# Altium schematic symbol library sucaiku.SCHLIB: 44 symbols
Pins are listed as number, name and electrical type; pins without a type are passive.

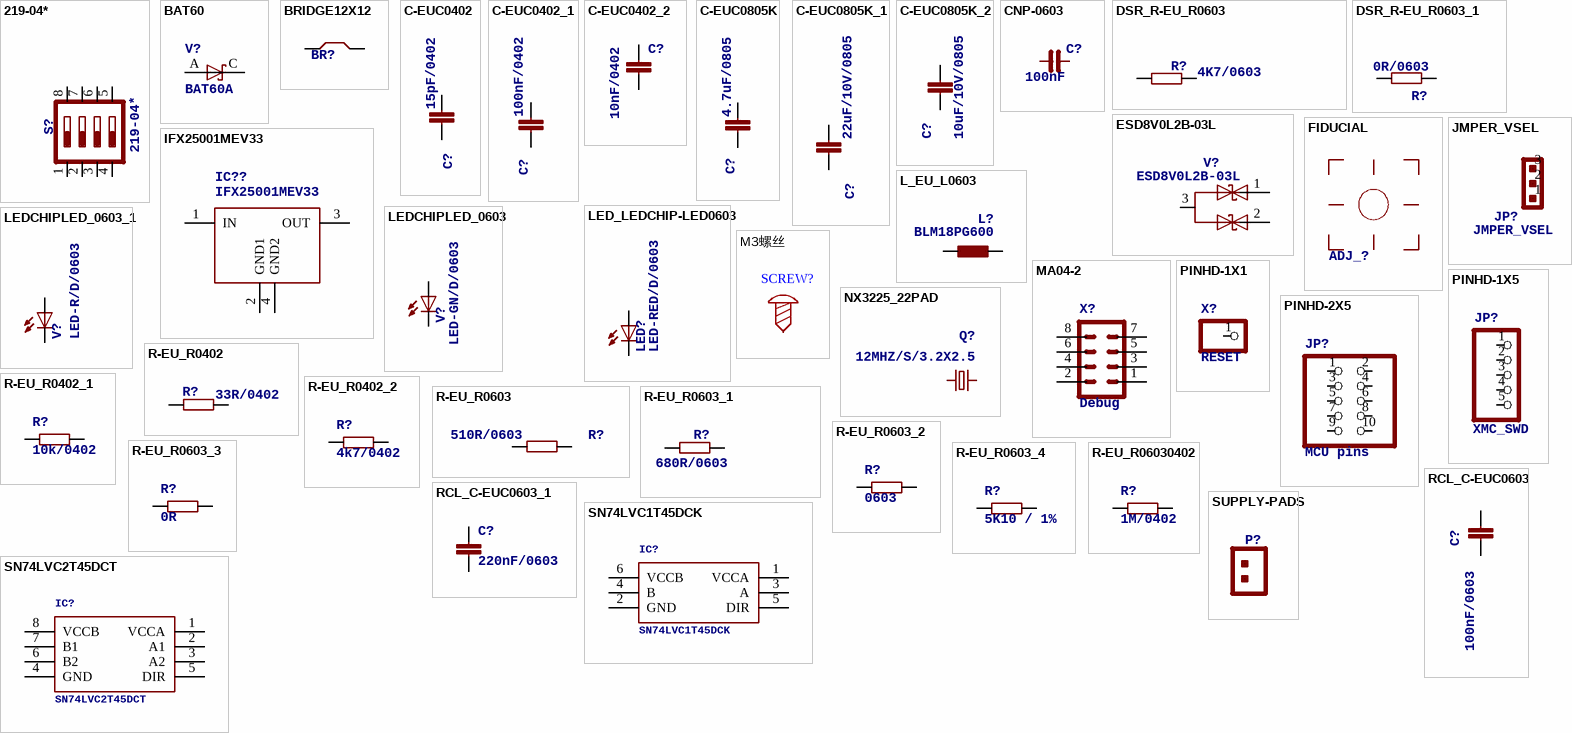
[diagram p0: symbols 219-04* to SUPPLY-PADS]

## 219-04*
designator S?
Surface Mount DIP Switch Series 219 SMT   CTS Electronic Components Sourc: www.ctscorp.com
footprint CTS-219-04
pins: 1, 2, 3, 4, 5, 6, 7, 8

## BAT60
designator V?, comment BAT60A
footprint SOD323-R
pins: A, C

## BRIDGE12X12
designator BR?  (value not drawn)
footprint BRIDGE12
pins: B1, B2

## C-EUC0402
designator C?, comment 15pF/0402
footprint C0402
pins: 1, 2

## C-EUC0402_1
designator C?, comment 100nF/0402
footprint C0402
pins: 1, 2

## C-EUC0402_2
designator C?, comment 10nF/0402
footprint C0402
pins: 1, 2

## C-EUC0805K
designator C?, comment 4.7uF/0805
CAPACITOR, European symbol
footprint C0805K
pins: 1, 2

## C-EUC0805K_1
designator C?, comment 22uF/10V/0805
CAPACITOR, European symbol
footprint C0805K
pins: 1, 2

## C-EUC0805K_2
designator C?, comment 10uF/10V/0805
CAPACITOR, European symbol
footprint C0805K
pins: 1, 2

## CNP-0603
designator C?, comment 100nF
NON-POLARIZED CAP
footprint 0603
pins: 1, 2

## DSR_R-EU_R0603
designator R?, comment 4K7/0603
footprint DSR_R0603
pins: 1, 2

## DSR_R-EU_R0603_1
designator R?, comment 0R/0603
footprint DSR_R0603
pins: 1, 2

## ESD8V0L2B-03L
designator V?
footprint TSLP-3-1
pins: 1, 2, 3

## FIDUCIAL
designator ADJ_?  (value not drawn)
Fiducial   FIDUCIAL: Durchmesser = 0.75mm Kupfer und 1.5mm Lötstopmaske FIDUCIAL 0.5mm: Durchmesser= 0.5mm Kupfer und 1.0mm Lötstopmaske
footprint FIDUCIAL

## IFX25001MEV33
designator IC??
footprint SOT223R_INFINEON
pins: 1 IN (power), 2 GND1 (power), 3 OUT (power), 4 GND2 (power)

## JMPER_VSEL
designator JP?
footprint JUMPER_VSEL
pins: 1, 2, 3

## L_EU_L0603
designator L?, comment BLM18PG600
footprint L1608
pins: 1, 2

## LED_LEDCHIP-LED0603
designator LED?, comment LED-RED/D/0603
LED   OSRAM: - CHIPLED LG R971, LG N971, LY N971, LG Q971, LY Q971, LO R971, LY R971 LH N974, LH R974 LS Q976, LO Q976, LY Q976 LO Q996 - Hyper CHIPLED LW Q18S LB Q993, LB Q99A, LB R99A - SideLED LS A670, LO A670, LY A670, LG A670, LP A670 LB A673, LV A673, LT A673, LW A673 LH A674 LY A675 LS A676, LA A676, LO A676, LY A676, LW A676 LS A679, LY A679, LG A679 -  Hyper Micro SIDELED® LS Y876, LA Y876, LO Y876, LY Y876 LT Y87S - SmartLED LW L88C, LW L88S LB L89C, LB L89S, LG L890 LS L89K, LO L89K, LY L89K LS L896, LA L896, LO L896, LY L896 - TOPLED LS T670, LO T670, LY T670, LG T670, LP T670 LSG T670, LSP T670, LSY T670, LOP T670, LYG T670 LG T671, LOG T671, LSG T671 LB T673, LV T673, LT T673, LW T673 LH T674 LS T676, LA T676, LO T676, LY T676, LB T676, LH T676, LSB T676, LW T676 LB T67C, LV T67C, LT T67C, LS T67K, LO T67K, LY T67K, LW E67C LS E67B, LA E67B, LO E67B, LY E67B, LB E67C, LV E67C, LT E67C LW T67C LS T679, LY T679, LG T679 LS T770, LO T770, LY T770, LG T770, LP T770 LB T773, LV T773, LT T773, LW T773 LH T774 LS E675, LA E675, LY E675, LS T675 LS T776, LA T776, LO T776, LY T776, LB T776 LHGB T686 LT T68C, LB T68C - Hyper Mini TOPLED® LB M676 - Mini TOPLED Santana® LG M470 LS M47K, LO M47K, LY M47K    Source: http://www.osram.convergy.de   - LUMILED® LXK2-PW12-R00, LXK2-PW12-S00, LXK2-PW14-U00, LXK2-PW14-V00 LXK2-PM12-R00, LXK2-PM12-S00, LXK2-PM14-U00 LXK2-PE12-Q00, LXK2-PE12-R00, LXK2-PE12-S00, LXK2-PE14-T00, LXK2-PE14-U00 LXK2-PB12-K00, LXK2-PB12-L00, LXK2-PB12-M00, LXK2-PB14-N00, LXK2-PB14-P00, LXK2-PB14-Q00 LXK2-PR12-L00, LXK2-PR12-M00, LXK2-PR14-Q00, LXK2-PR14-R00 LXK2-PD12-Q00, LXK2-PD12-R00, LXK2-PD12-S00 LXK2-PH12-R00, LXK2-PH12-S00 LXK2-PL12-P00, LXK2-PL12-Q00, LXK2-PL12-R00    Source: www.luxeon.com
footprint LED_CHIP-LED0603
pins: A, C

## LEDCHIPLED_0603
designator V?, comment LED-GN/D/0603
LED   OSRAM: - CHIPLED LG R971, LG N971, LY N971, LG Q971, LY Q971, LO R971, LY R971 LH N974, LH R974 LS Q976, LO Q976, LY Q976 LO Q996 - Hyper CHIPLED LW Q18S LB Q993, LB Q99A, LB R99A - SideLED LS A670, LO A670, LY A670, LG A670, LP A670 LB A673, LV A673, LT A673, LW A673 LH A674 LY A675 LS A676, LA A676, LO A676, LY A676, LW A676 LS A679, LY A679, LG A679 -  Hyper Micro SIDELED® LS Y876, LA Y876, LO Y876, LY Y876 LT Y87S - SmartLED LW L88C, LW L88S LB L89C, LB L89S, LG L890 LS L89K, LO L89K, LY L89K LS L896, LA L896, LO L896, LY L896 - TOPLED LS T670, LO T670, LY T670, LG T670, LP T670 LSG T670, LSP T670, LSY T670, LOP T670, LYG T670 LG T671, LOG T671, LSG T671 LB T673, LV T673, LT T673, LW T673 LH T674 LS T676, LA T676, LO T676, LY T676, LB T676, LH T676, LSB T676, LW T676 LB T67C, LV T67C, LT T67C, LS T67K, LO T67K, LY T67K, LW E67C LS E67B, LA E67B, LO E67B, LY E67B, LB E67C, LV E67C, LT E67C LW T67C LS T679, LY T679, LG T679 LS T770, LO T770, LY T770, LG T770, LP T770 LB T773, LV T773, LT T773, LW T773 LH T774 LS E675, LA E675, LY E675, LS T675 LS T776, LA T776, LO T776, LY T776, LB T776 LHGB T686 LT T68C, LB T68C - Hyper Mini TOPLED® LB M676 - Mini TOPLED Santana® LG M470 LS M47K, LO M47K, LY M47K    Source: http://www.osram.convergy.de   LUXEON: - LUMILED® LXK2-PW12-R00, LXK2-PW12-S00, LXK2-PW14-U00, LXK2-PW14-V00 LXK2-PM12-R00, LXK2-PM12-S00, LXK2-PM14-U00 LXK2-PE12-Q00, LXK2-PE12-R00, LXK2-PE12-S00, LXK2-PE14-T00, LXK2-PE14-U00 LXK2-PB12-K00, LXK2-PB12-L00, LXK2-PB12-M00, LXK2-PB14-N00, LXK2-PB14-P00, LXK2-PB14-Q00 LXK2-PR12-L00, LXK2-PR12-M00, LXK2-PR14-Q00, LXK2-PR14-R00 LXK2-PD12-Q00, LXK2-PD12-R00, LXK2-PD12-S00 LXK2-PH12-R00, LXK2-PH12-S00 LXK2-PL12-P00, LXK2-PL12-Q00, LXK2-PL12-R00    Source: www.luxeon.com   KINGBRIGHT:   KA-3528ASYC Source: www.kingbright.com
footprint CHIPLED_0603
pins: A, C

## LEDCHIPLED_0603_1
designator V?, comment LED-R/D/0603
LED   OSRAM: - CHIPLED LG R971, LG N971, LY N971, LG Q971, LY Q971, LO R971, LY R971 LH N974, LH R974 LS Q976, LO Q976, LY Q976 LO Q996 - Hyper CHIPLED LW Q18S LB Q993, LB Q99A, LB R99A - SideLED LS A670, LO A670, LY A670, LG A670, LP A670 LB A673, LV A673, LT A673, LW A673 LH A674 LY A675 LS A676, LA A676, LO A676, LY A676, LW A676 LS A679, LY A679, LG A679 -  Hyper Micro SIDELED® LS Y876, LA Y876, LO Y876, LY Y876 LT Y87S - SmartLED LW L88C, LW L88S LB L89C, LB L89S, LG L890 LS L89K, LO L89K, LY L89K LS L896, LA L896, LO L896, LY L896 - TOPLED LS T670, LO T670, LY T670, LG T670, LP T670 LSG T670, LSP T670, LSY T670, LOP T670, LYG T670 LG T671, LOG T671, LSG T671 LB T673, LV T673, LT T673, LW T673 LH T674 LS T676, LA T676, LO T676, LY T676, LB T676, LH T676, LSB T676, LW T676 LB T67C, LV T67C, LT T67C, LS T67K, LO T67K, LY T67K, LW E67C LS E67B, LA E67B, LO E67B, LY E67B, LB E67C, LV E67C, LT E67C LW T67C LS T679, LY T679, LG T679 LS T770, LO T770, LY T770, LG T770, LP T770 LB T773, LV T773, LT T773, LW T773 LH T774 LS E675, LA E675, LY E675, LS T675 LS T776, LA T776, LO T776, LY T776, LB T776 LHGB T686 LT T68C, LB T68C - Hyper Mini TOPLED® LB M676 - Mini TOPLED Santana® LG M470 LS M47K, LO M47K, LY M47K    Source: http://www.osram.convergy.de   LUXEON: - LUMILED® LXK2-PW12-R00, LXK2-PW12-S00, LXK2-PW14-U00, LXK2-PW14-V00 LXK2-PM12-R00, LXK2-PM12-S00, LXK2-PM14-U00 LXK2-PE12-Q00, LXK2-PE12-R00, LXK2-PE12-S00, LXK2-PE14-T00, LXK2-PE14-U00 LXK2-PB12-K00, LXK2-PB12-L00, LXK2-PB12-M00, LXK2-PB14-N00, LXK2-PB14-P00, LXK2-PB14-Q00 LXK2-PR12-L00, LXK2-PR12-M00, LXK2-PR14-Q00, LXK2-PR14-R00 LXK2-PD12-Q00, LXK2-PD12-R00, LXK2-PD12-S00 LXK2-PH12-R00, LXK2-PH12-S00 LXK2-PL12-P00, LXK2-PL12-Q00, LXK2-PL12-R00    Source: www.luxeon.com   KINGBRIGHT:   KA-3528ASYC Source: www.kingbright.com
footprint CHIPLED_0603
pins: A, C

## M3螺丝
designator SCREW?, comment 1  (value not drawn)
Symbol: 螺丝孔; Device: M3螺丝; Convert to PCB: yes; Add into BOM: yes; Supplier Footprint: 插件
footprint M3
pins: 1

## MA04-2
designator X?, comment Debug
PIN HEADER
footprint MA04-2
pins: 1, 2, 3, 4, 5, 6, 7, 8

## NX3225_22PAD
designator Q?, comment 12MHZ/S/3.2X2.5
footprint 32X25_2PAD
pins: 1, 2

## PINHD-1X1
designator X?, comment RESET
PIN HEADER
footprint 1X01
pins: 1

## PINHD-1X5
designator JP?, comment XMC_SWD
PIN HEADER
footprint 1X05
pins: 1, 2, 3, 4, 5

## PINHD-2X5
designator JP?, comment MCU pins
PIN HEADER
footprint 2X05
pins: 1, 2, 3, 4, 5, 6, 7, 8, 9, 10

## R-EU_R0402
designator R?, comment 33R/0402
footprint R0402
pins: 1, 2

## R-EU_R0402_1
designator R?, comment 10k/0402
footprint R0402
pins: 1, 2

## R-EU_R0402_2
designator R?, comment 4k7/0402
footprint R0402
pins: 1, 2

## R-EU_R0603
designator R?, comment 510R/0603
footprint R0603
pins: 1, 2

## R-EU_R0603_1
designator R?, comment 680R/0603
footprint R0603
pins: 1, 2

## R-EU_R0603_2
designator R?, comment 0603
RESISTOR, European symbol
footprint R0603
pins: 1, 2

## R-EU_R0603_3
designator R?, comment 0R
RESISTOR, European symbol
footprint R0603
pins: 1, 2

## R-EU_R0603_4
designator R?, comment 5K10 / 1%
RESISTOR, European symbol
footprint R0603
pins: 1, 2

## R-EU_R06030402
designator R?, comment 1M/0402
footprint R0402
pins: 1, 2

## RCL_C-EUC0603
designator C?, comment 100nF/0603
CAPACITOR, European symbol
footprint RCL_C0603
pins: 1, 2

## RCL_C-EUC0603_1
designator C?, comment 220nF/0603
CAPACITOR, European symbol
footprint RCL_C0603
pins: 1, 2

## SN74LVC1T45DCK
designator IC?
footprint DCK_R-PDSO-G6
pins: 1 VCCA, 2 GND, 3 A, 4 B, 5 DIR, 6 VCCB

## SN74LVC2T45DCT
designator IC?
footprint DCT_R-PDSO-G8
pins: 1 VCCA, 2 A1, 3 A2, 4 GND, 5 DIR, 6 B2, 7 B1, 8 VCCB

## SUPPLY-PADS
designator P?  (value not drawn)
footprint SUPPLY-PADS
pins: 1, 2

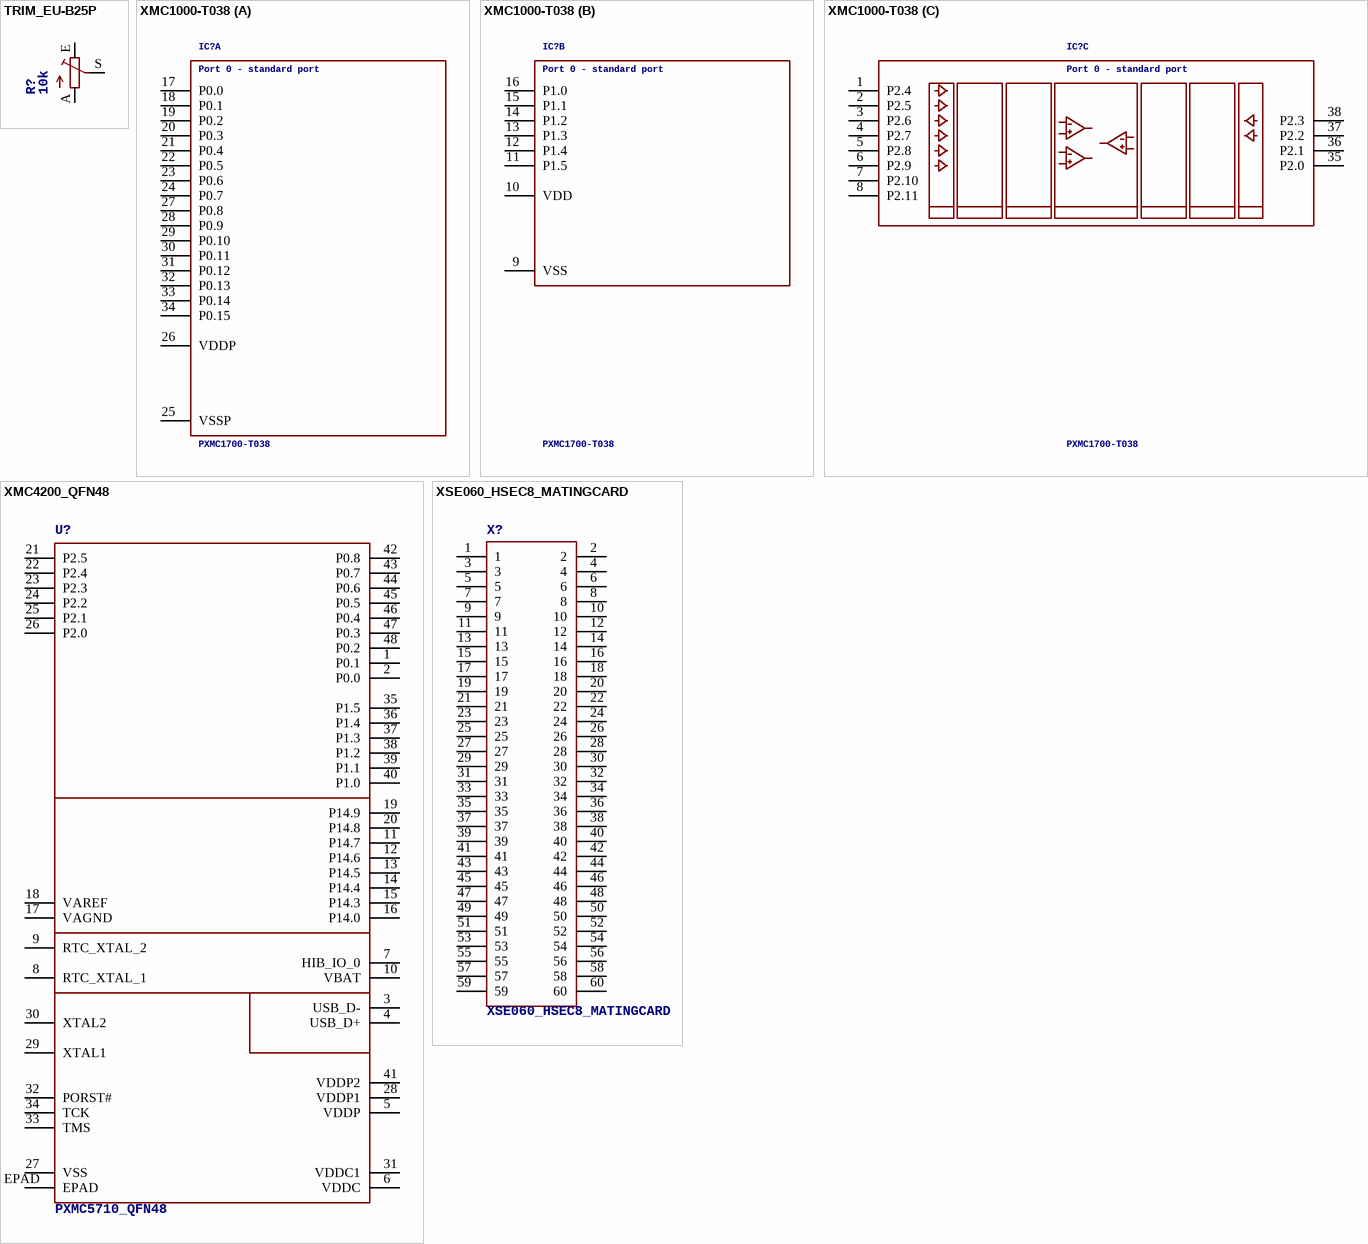
[diagram p1: symbols TRIM_EU-B25P to XSE060_HSEC8_MATINGCARD]

## TRIM_EU-B25P
designator R?, comment 10k
POTENTIOMETER
footprint B25P
pins: A, E, S

## XMC1000-T038
designator IC?, comment PXMC1700-T038  Port0-standardport: Port 0 - standard port
footprint P-TSSOP38-9
footprint P-TSSOP38-9
footprint P-TSSOP38-9
part A pins: 17 P0.0, 18 P0.1, 19 P0.2, 20 P0.3, 21 P0.4, 22 P0.5, 23 P0.6, 24 P0.7, 25 VSSP (power), 26 VDDP (power), 27 P0.8, 28 P0.9, 29 P0.10, 30 P0.11, 31 P0.12, 32 P0.13, 33 P0.14, 34 P0.15
part B pins: 9 VSS (power), 10 VDD (power), 11 P1.5, 12 P1.4, 13 P1.3, 14 P1.2, 15 P1.1, 16 P1.0
part C pins: 1 P2.4, 2 P2.5, 3 P2.6, 4 P2.7, 5 P2.8, 6 P2.9, 7 P2.10, 8 P2.11, 35 P2.0, 36 P2.1, 37 P2.2, 38 P2.3

## XMC4200_QFN48
designator U?, comment PXMC5710_QFN48
footprint QFN-48-7X7
pins: 1 P0.1, 2 P0.0, 3 USB_D-, 4 USB_D+, 5 VDDP, 6 VDDC, 7 HIB_IO_0, 8 RTC_XTAL_1, 9 RTC_XTAL_2, 10 VBAT, 11 P14.7, 12 P14.6, 13 P14.5, 14 P14.4, 15 P14.3, 16 P14.0, 17 VAGND, 18 VAREF, 19 P14.9, 20 P14.8, 21 P2.5, 22 P2.4, 23 P2.3, 24 P2.2, 25 P2.1, 26 P2.0, 27 VSS, 28 VDDP1, 29 XTAL1, 30 XTAL2, 31 VDDC1, 32 PORST#, 33 TMS, 34 TCK, 35 P1.5, 36 P1.4, 37 P1.3, 38 P1.2, 39 P1.1, 40 P1.0, 41 VDDP2, 42 P0.8, 43 P0.7, 44 P0.6, 45 P0.5, 46 P0.4, 47 P0.3, 48 P0.2, EPAD

## XSE060_HSEC8_MATINGCARD
designator X?
footprint XSE060_HSEC8_MATINGCARD_60
pins: 1, 2, 3, 4, 5, 6, 7, 8, 9, 10, 11, 12, 13, 14, 15, 16, 17, 18, 19, 20, 21, 22, 23, 24, 25, 26, 27, 28, 29, 30, 31, 32, 33, 34, 35, 36, 37, 38, 39, 40, 41, 42, 43, 44, 45, 46, 47, 48, 49, 50, 51, 52, 53, 54, 55, 56, 57, 58, 59, 60